# Altium integrated library CC0402BRNPO9BN8R2.IntLib: 1 symbol
Pins are listed as number, name and electrical type; pins without a type are passive.

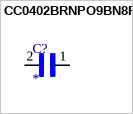
[diagram p0: symbol CC0402BRNPO9BN8R2]

## CC0402BRNPO9BN8R2
designator C?
KC 8,2pF 0402 0,10pF 50V NP0; MP: CC0402BRNPO9BN8R2; Package: None; Price: None; Value: *; Availability: Unavailable
footprint CAPC1005X55N
pins: 1, 2